# EAGLE library part *27 (library digital)
74xx27: Triple 3-input NOR gate
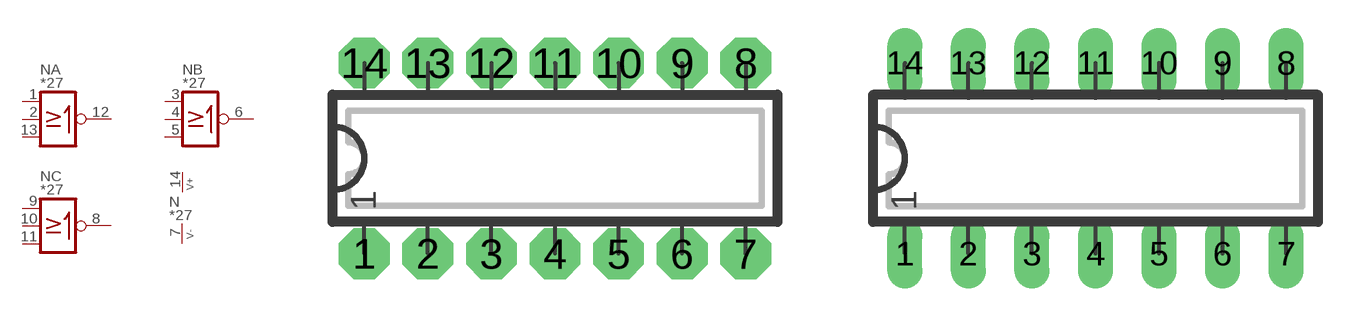
[diagram p17: symbol with the pads of DIP14N; footprints DIP14N, DIP14L]

Designator prefix N; gates A=NOR3 B=NOR3 C=NOR3 P=V+-

## 7427N, 74ALS27N, 74AS27N, 74HC27N, 74LS27N  [DIP14N]
1  A:I1  in
2  A:I2  in
3  B:I1  in
4  B:I2  in
5  B:I3  in
6  B:O  out
7  P:V-  pwr
8  C:O  out
9  C:I1  in
10  C:I2  in
11  C:I3  in
12  A:O  out
13  A:I3  in
14  P:V+  pwr

## 7427, 74ALS27, 74AS27, 74HC27, 74LS27  [DIP14L]
Pads as for DIP14N

## 7427L, 74ALS27L, 74AS27L, 74HC27L, 74LS27L  [DIP14L]
Pads as for DIP14N

## 7427R, 74ALS27R, 74AS27R, 74HC27R, 74LS27R  [DIP14R]
Pads as for DIP14N

## 74HC27S, 74HCT27S  [SO14]
Pads as for DIP14N

## Footprint DIP14N (pad centres in mm)
DIP-14 Standard IC package, 14 pins
drill 0.813 pad 2.032 octagon: 1 0,0; 2 2.54,0; 3 5.08,0; 4 7.62,0; 5 10.16,0; 6 12.7,0; 7 15.24,0; 8 15.24,7.62; 9 12.7,7.62; 10 10.16,7.62; 11 7.62,7.62; 12 5.08,7.62; 13 2.54,7.62; 14 0,7.62

## Footprint DIP14L (pad centres in mm)
DIP-14, long pads Standard IC package, 14 pins
drill 0.813 pad 1.397 long: 1 0,0; 2 2.54,0; 3 5.08,0; 4 7.62,0; 5 10.16,0; 6 12.7,0; 7 15.24,0; 8 15.24,7.62; 9 12.7,7.62; 10 10.16,7.62; 11 7.62,7.62; 12 5.08,7.62; 13 2.54,7.62; 14 0,7.62

## Footprint DIP14R (pad centres in mm)
DIP-14, reduced pads Standard IC package, 14 pins
drill 0.813 pad 1.397 square: 1 0,0; 2 2.54,0; 3 5.08,0; 4 7.62,0; 5 10.16,0; 6 12.7,0; 7 15.24,0; 8 15.24,7.62; 9 12.7,7.62; 10 10.16,7.62; 11 7.62,7.62; 12 5.08,7.62; 13 2.54,7.62; 14 0,7.62

## Footprint SO14 (pad centres in mm)
SO-14, SMD SOIC IC package, 14 pins
smd 0.635 x 1.778: 1 -3.81,-2.857; 2 -2.54,-2.857; 3 -1.27,-2.857; 4 0,-2.857; 5 1.27,-2.857; 6 2.54,-2.857; 7 3.81,-2.857; 8 3.81,2.857; 9 2.54,2.857; 10 1.27,2.857; 11 0,2.857; 12 -1.27,2.857; 13 -2.54,2.857; 14 -3.81,2.857